# Altium integrated library Linear Technology Power Management LDO Linear Regulators.IntLib: 2339 symbols (part 20 of 131)
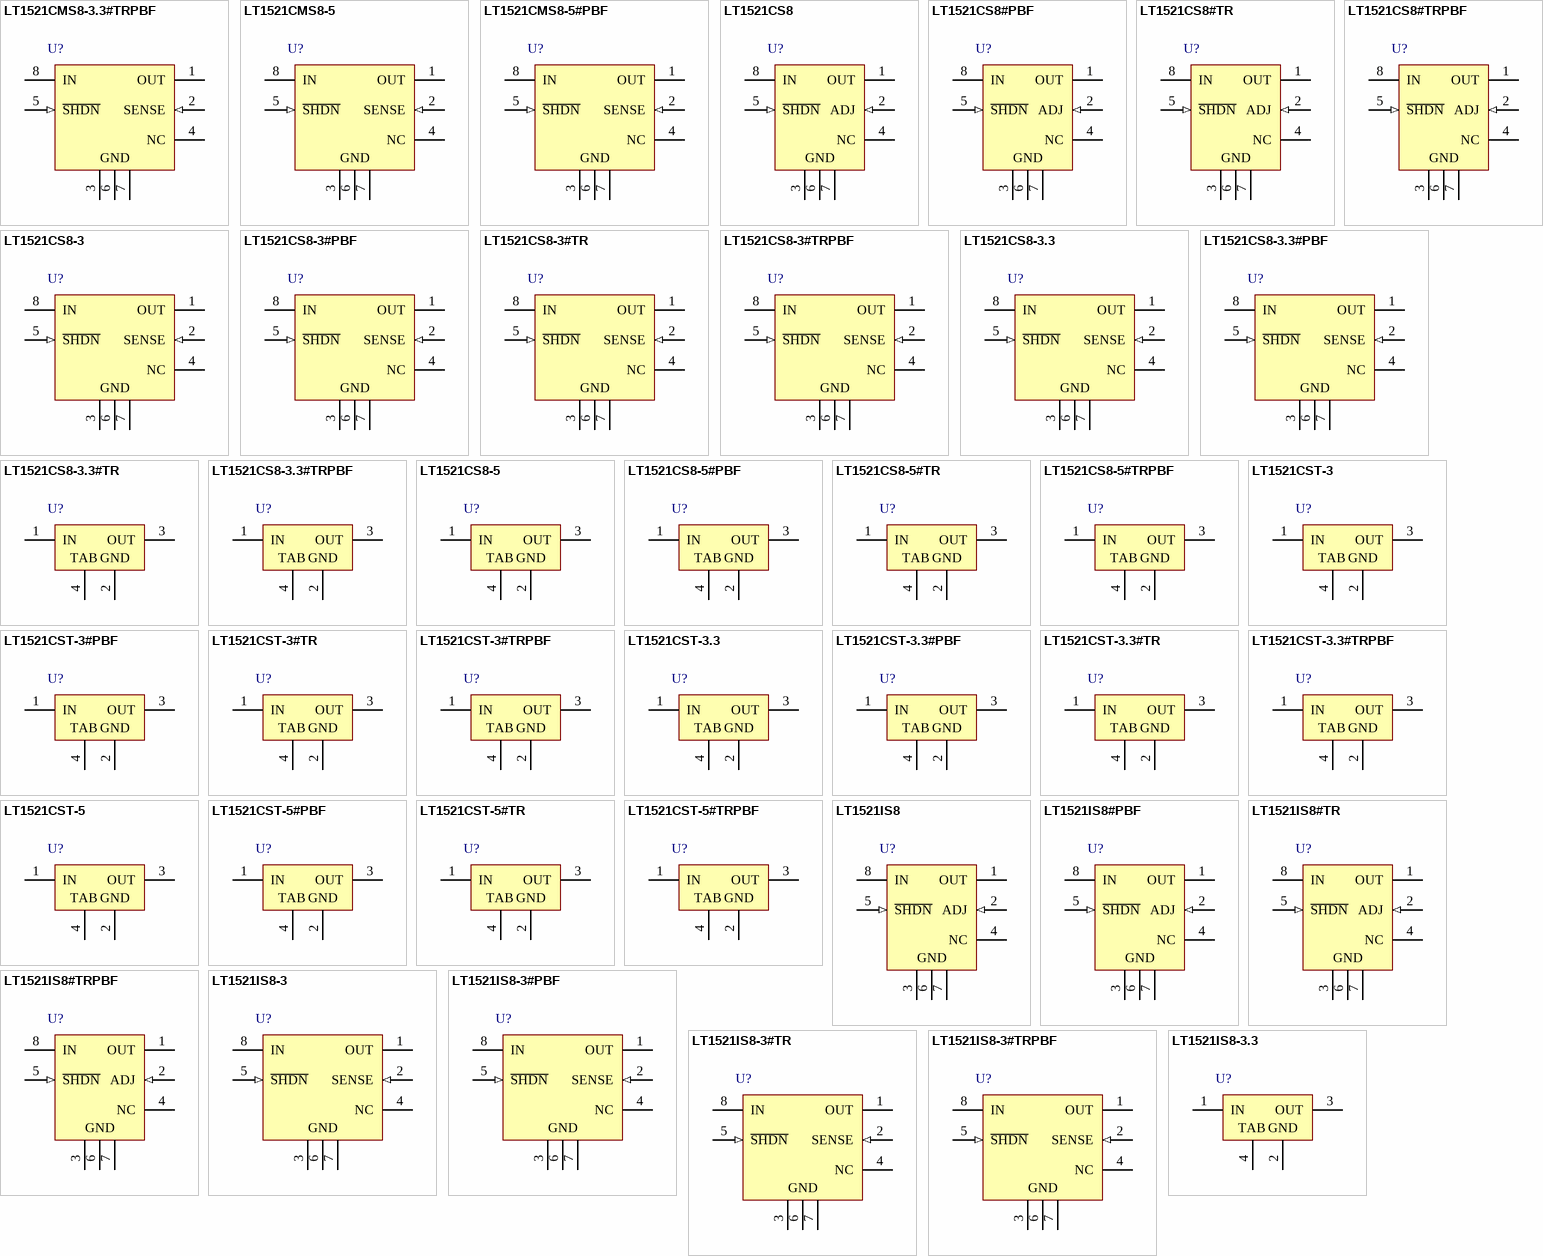
[diagram p88: symbols LT1521CMS8-3.3#TRPBF to LT1521IS8-3.3]

## LT1521CMS8-5
designator U?
300 mA Low Dropout Regulator with Micropower Quiescent Current and Shutdown, 4.3 to 20 V Vin, 5 V Vout, 8-pin SOP (MS8-8), 0 to 125 degC; Manufacturer: Linear Technology; PartNumber: LT1521CMS8-5; Discrete Pass Element: no; Dropout Voltage(V): 0.5; Iout(mA): 300; Isupply(mA): 0.012; Number of Outputs: 1; Output Voltage: 5 V; Shutdown Current(uA): 6; Vin Max(V): 20; Vin Min(V): 4.3; DatasheetVersion: Rev. B; PackageVersion: Rev. G, 03/2012; PackageReference: MS8-8; PackageDescription: 8-Pin Plastic MSOP, Body 3 x 3 mm, Pitch 0.65 mm; Supplier 1: Digi-Key; Supplier Part Number 1: LT1521CMS8-5-ND; RoHS: FALSE; Mounting Technology: Surface Mount; ComponentLink1Description: Manufacturer URL; ComponentLink1URL: http://www.linear.com/; ComponentLink2Description: Datasheet; ComponentLink2URL: http://cds.linear.com/docs/en/datasheet/1521335fb.pdf; ComponentLink3Description: Package Specification; ComponentLink3URL: http://cds.linear.com/docs/en/packaging/05081660_G_MS8.pdf
footprint LT-MS8-8_N (SOP, 8-Leads, Body 3x3mm, Pitch 0.65mm, IPC Medium Density)
footprint LT-MS8-8_L (SOP, 8-Leads, Body 3x3mm, Pitch 0.65mm, IPC High Density)
footprint LT-MS8-8_M (SOP, 8-Leads, Body 3x3mm, Pitch 0.65mm, IPC Low Density)
pins: 1 OUT (power), 2 SENSE (in), 3 GND (power), 4 NC, 5 ~{SHDN} (in), 6 GND (power), 7 GND (power), 8 IN (power)

## LT1521CMS8-5#PBF
designator U?
300 mA Low Dropout Regulator with Micropower Quiescent Current and Shutdown, 4.3 to 20 V Vin, 5 V Vout, 8-pin SOP (MS8-8), 0 to 125 degC, Pb-Free; Manufacturer: Linear Technology; PartNumber: LT1521CMS8-5#PBF; Discrete Pass Element: no; Dropout Voltage(V): 0.5; Iout(mA): 300; Isupply(mA): 0.012; Number of Outputs: 1; Output Voltage: 5 V; Shutdown Current(uA): 6; Vin Max(V): 20; Vin Min(V): 4.3; DatasheetVersion: Rev. B; PackageVersion: Rev. G, 03/2012; PackageReference: MS8-8; PackageDescription: 8-Pin Plastic MSOP, Body 3 x 3 mm, Pitch 0.65 mm; Supplier 1: Digi-Key; Supplier Part Number 1: LT1521CMS8-5#PBF-ND; Supplier 2: Newark; Supplier Part Number 2: 57M4745; RoHS: TRUE; Mounting Technology: Surface Mount; ComponentLink1Description: Manufacturer URL; ComponentLink1URL: http://www.linear.com/; ComponentLink2Description: Datasheet; ComponentLink2URL: http://cds.linear.com/docs/en/datasheet/1521335fb.pdf; ComponentLink3Description: Package Specification; ComponentLink3URL: http://cds.linear.com/docs/en/packaging/05081660_G_MS8.pdf
footprint LT-MS8-8_N (SOP, 8-Leads, Body 3x3mm, Pitch 0.65mm, IPC Medium Density)
footprint LT-MS8-8_L (SOP, 8-Leads, Body 3x3mm, Pitch 0.65mm, IPC High Density)
footprint LT-MS8-8_M (SOP, 8-Leads, Body 3x3mm, Pitch 0.65mm, IPC Low Density)
pins: 1 OUT (power), 2 SENSE (in), 3 GND (power), 4 NC, 5 ~{SHDN} (in), 6 GND (power), 7 GND (power), 8 IN (power)

## LT1521CS8
designator U?
300 mA Low Dropout Regulator with Micropower Quiescent Current and Shutdown, 4.3 to 20 V Vin, Adjustable Vout, 8-pin SOIC (S8-8), 0 to 125 degC; Manufacturer: Linear Technology; PartNumber: LT1521CS8; Discrete Pass Element: no; Dropout Voltage(V): 0.5; Iout(mA): 300; Isupply(mA): 0.012; Number of Outputs: 1; Output Voltage: Adj; Shutdown Current(uA): 6; Vin Max(V): 20; Vin Min(V): 4.3; Vout Min(V): 3.8; DatasheetVersion: Rev. B; PackageVersion: Rev. G, 03/2012; PackageReference: S8-8; PackageDescription: 8-Pin Plastic Small Outline (Narrow .150 Inch), Body 4.9 x 3.9 mm, Pitch 1.27 mm; Supplier 1: Digi-Key; Supplier Part Number 1: LT1521CS8-ND; RoHS: FALSE; Vout Max(V): 20; Mounting Technology: Surface Mount; ComponentLink1Description: Manufacturer URL; ComponentLink1URL: http://www.linear.com/; ComponentLink2Description: Datasheet; ComponentLink2URL: http://cds.linear.com/docs/en/datasheet/1521335fb.pdf; ComponentLink3Description: Package Specification; ComponentLink3URL: http://cds.linear.com/docs/en/packaging/05081610_G_SO8.pdf
footprint LT-S8-8_N (SOIC, 8-Leads, Body 4.9x3.9mm, Pitch 1.27mm, IPC Medium Density)
footprint LT-S8-8_L (SOIC, 8-Leads, Body 4.9x3.9mm, Pitch 1.27mm, IPC High Density)
footprint LT-S8-8_M (SOIC, 8-Leads, Body 4.9x3.9mm, Pitch 1.27mm, IPC Low Density)
pins: 1 OUT (power) "The output pin supplies power to the load.with larger load transients.", 2 ADJ (in) "Adjust.", 3 GND (power), 4 NC, 5 ~{SHDN} (in) "The shutdown pin is used to put the device into shutdown.", 6 GND (power), 7 GND (power), 8 IN (power) "Power is supplied to the device through the input pin. capacitor."

## LT1521CS8#PBF
designator U?
300 mA Low Dropout Regulator with Micropower Quiescent Current and Shutdown, 4.3 to 20 V Vin, Adjustable Vout, 8-pin SOIC (S8-8), 0 to 125 degC, Pb-Free; Manufacturer: Linear Technology; PartNumber: LT1521CS8#PBF; Discrete Pass Element: no; Dropout Voltage(V): 0.5; Iout(mA): 300; Isupply(mA): 0.012; Number of Outputs: 1; Output Voltage: Adj; Shutdown Current(uA): 6; Vin Max(V): 20; Vin Min(V): 4.3; Vout Min(V): 3.8; DatasheetVersion: Rev. B; PackageVersion: Rev. G, 03/2012; PackageReference: S8-8; PackageDescription: 8-Pin Plastic Small Outline (Narrow .150 Inch), Body 4.9 x 3.9 mm, Pitch 1.27 mm; Supplier 1: Digi-Key; Supplier Part Number 1: LT1521CS8#PBF-ND; Supplier 2: Farnell; Supplier Part Number 2: 9560599; Supplier 3: Newark; Supplier Part Number 3: 57M4772; RoHS: TRUE; Vout Max(V): 20; Mounting Technology: Surface Mount; ComponentLink1Description: Manufacturer URL; ComponentLink1URL: http://www.linear.com/; ComponentLink2Description: Datasheet; ComponentLink2URL: http://cds.linear.com/docs/en/datasheet/1521335fb.pdf; ComponentLink3Description: Package Specification; ComponentLink3URL: http://cds.linear.com/docs/en/packaging/05081610_G_SO8.pdf
footprint LT-S8-8_N (SOIC, 8-Leads, Body 4.9x3.9mm, Pitch 1.27mm, IPC Medium Density)
footprint LT-S8-8_L (SOIC, 8-Leads, Body 4.9x3.9mm, Pitch 1.27mm, IPC High Density)
footprint LT-S8-8_M (SOIC, 8-Leads, Body 4.9x3.9mm, Pitch 1.27mm, IPC Low Density)
pins: 1 OUT (power) "The output pin supplies power to the load.with larger load transients.", 2 ADJ (in) "Adjust.", 3 GND (power), 4 NC, 5 ~{SHDN} (in) "The shutdown pin is used to put the device into shutdown.", 6 GND (power), 7 GND (power), 8 IN (power) "Power is supplied to the device through the input pin. capacitor."

## LT1521CS8#TR
designator U?
300 mA Low Dropout Regulator with Micropower Quiescent Current and Shutdown, 4.3 to 20 V Vin, Adjustable Vout, 8-pin SOIC (S8-8), 0 to 125 degC, Tape and Reel; Manufacturer: Linear Technology; PartNumber: LT1521CS8#TR; Discrete Pass Element: no; Dropout Voltage(V): 0.5; Iout(mA): 300; Isupply(mA): 0.012; Number of Outputs: 1; Output Voltage: Adj; Shutdown Current(uA): 6; Vin Max(V): 20; Vin Min(V): 4.3; Vout Min(V): 3.8; DatasheetVersion: Rev. B; PackageVersion: Rev. G, 03/2012; PackageReference: S8-8; PackageDescription: 8-Pin Plastic Small Outline (Narrow .150 Inch), Body 4.9 x 3.9 mm, Pitch 1.27 mm; Supplier 1: Digi-Key; Supplier Part Number 1: LT1521CS8#TR-ND; Packing: Tape and Reel; RoHS: FALSE; Vout Max(V): 20; Mounting Technology: Surface Mount; ComponentLink1Description: Manufacturer URL; ComponentLink1URL: http://www.linear.com/; ComponentLink2Description: Datasheet; ComponentLink2URL: http://cds.linear.com/docs/en/datasheet/1521335fb.pdf; ComponentLink3Description: Package Specification; ComponentLink3URL: http://cds.linear.com/docs/en/packaging/05081610_G_SO8.pdf
footprint LT-S8-8_N (SOIC, 8-Leads, Body 4.9x3.9mm, Pitch 1.27mm, IPC Medium Density)
footprint LT-S8-8_L (SOIC, 8-Leads, Body 4.9x3.9mm, Pitch 1.27mm, IPC High Density)
footprint LT-S8-8_M (SOIC, 8-Leads, Body 4.9x3.9mm, Pitch 1.27mm, IPC Low Density)
pins: 1 OUT (power) "The output pin supplies power to the load.with larger load transients.", 2 ADJ (in) "Adjust.", 3 GND (power), 4 NC, 5 ~{SHDN} (in) "The shutdown pin is used to put the device into shutdown.", 6 GND (power), 7 GND (power), 8 IN (power) "Power is supplied to the device through the input pin. capacitor."

## LT1521CS8#TRPBF
designator U?
300 mA Low Dropout Regulator with Micropower Quiescent Current and Shutdown, 4.3 to 20 V Vin, Adjustable Vout, 8-pin SOIC (S8-8), 0 to 125 degC, Pb-Free, Tape and Reel; Manufacturer: Linear Technology; PartNumber: LT1521CS8#TRPBF; Discrete Pass Element: no; Dropout Voltage(V): 0.5; Iout(mA): 300; Isupply(mA): 0.012; Number of Outputs: 1; Output Voltage: Adj; Shutdown Current(uA): 6; Vin Max(V): 20; Vin Min(V): 4.3; Vout Min(V): 3.8; DatasheetVersion: Rev. B; PackageVersion: Rev. G, 03/2012; PackageReference: S8-8; PackageDescription: 8-Pin Plastic Small Outline (Narrow .150 Inch), Body 4.9 x 3.9 mm, Pitch 1.27 mm; Supplier 1: Digi-Key; Supplier Part Number 1: LT1521CS8#TRPBF-ND; Packing: Tape and Reel; RoHS: TRUE; Vout Max(V): 20; Mounting Technology: Surface Mount; ComponentLink1Description: Manufacturer URL; ComponentLink1URL: http://www.linear.com/; ComponentLink2Description: Datasheet; ComponentLink2URL: http://cds.linear.com/docs/en/datasheet/1521335fb.pdf; ComponentLink3Description: Package Specification; ComponentLink3URL: http://cds.linear.com/docs/en/packaging/05081610_G_SO8.pdf
footprint LT-S8-8_N (SOIC, 8-Leads, Body 4.9x3.9mm, Pitch 1.27mm, IPC Medium Density)
footprint LT-S8-8_L (SOIC, 8-Leads, Body 4.9x3.9mm, Pitch 1.27mm, IPC High Density)
footprint LT-S8-8_M (SOIC, 8-Leads, Body 4.9x3.9mm, Pitch 1.27mm, IPC Low Density)
pins: 1 OUT (power) "The output pin supplies power to the load.with larger load transients.", 2 ADJ (in) "Adjust.", 3 GND (power), 4 NC, 5 ~{SHDN} (in) "The shutdown pin is used to put the device into shutdown.", 6 GND (power), 7 GND (power), 8 IN (power) "Power is supplied to the device through the input pin. capacitor."

## LT1521CS8-3
designator U?
300 mA Low Dropout Regulator with Micropower Quiescent Current and Shutdown, 4.3 to 20 V Vin, 3 V Vout, 8-pin SOIC (S8-8), 0 to 125 degC; Manufacturer: Linear Technology; PartNumber: LT1521CS8-3; Discrete Pass Element: no; Dropout Voltage(V): 0.5; Iout(mA): 300; Isupply(mA): 0.012; Number of Outputs: 1; Output Voltage: 3 V; Shutdown Current(uA): 6; Vin Max(V): 20; Vin Min(V): 4.3; DatasheetVersion: Rev. B; PackageVersion: Rev. G, 03/2012; PackageReference: S8-8; PackageDescription: 8-Pin Plastic Small Outline (Narrow .150 Inch), Body 4.9 x 3.9 mm, Pitch 1.27 mm; Supplier 1: Digi-Key; Supplier Part Number 1: LT1521CS8-3-ND; RoHS: FALSE; Mounting Technology: Surface Mount; ComponentLink1Description: Manufacturer URL; ComponentLink1URL: http://www.linear.com/; ComponentLink2Description: Datasheet; ComponentLink2URL: http://cds.linear.com/docs/en/datasheet/1521335fb.pdf; ComponentLink3Description: Package Specification; ComponentLink3URL: http://cds.linear.com/docs/en/packaging/05081610_G_SO8.pdf
footprint LT-S8-8_N (SOIC, 8-Leads, Body 4.9x3.9mm, Pitch 1.27mm, IPC Medium Density)
footprint LT-S8-8_L (SOIC, 8-Leads, Body 4.9x3.9mm, Pitch 1.27mm, IPC High Density)
footprint LT-S8-8_M (SOIC, 8-Leads, Body 4.9x3.9mm, Pitch 1.27mm, IPC Low Density)
pins: 1 OUT (power), 2 SENSE (in), 3 GND (power), 4 NC, 5 ~{SHDN} (in), 6 GND (power), 7 GND (power), 8 IN (power)

## LT1521CS8-3#PBF
designator U?
300 mA Low Dropout Regulator with Micropower Quiescent Current and Shutdown, 4.3 to 20 V Vin, 3 V Vout, 8-pin SOIC (S8-8), 0 to 125 degC, Pb-Free; Manufacturer: Linear Technology; PartNumber: LT1521CS8-3#PBF; Discrete Pass Element: no; Dropout Voltage(V): 0.5; Iout(mA): 300; Isupply(mA): 0.012; Number of Outputs: 1; Output Voltage: 3 V; Shutdown Current(uA): 6; Vin Max(V): 20; Vin Min(V): 4.3; DatasheetVersion: Rev. B; PackageVersion: Rev. G, 03/2012; PackageReference: S8-8; PackageDescription: 8-Pin Plastic Small Outline (Narrow .150 Inch), Body 4.9 x 3.9 mm, Pitch 1.27 mm; Supplier 1: Digi-Key; Supplier Part Number 1: LT1521CS8-3#PBF-ND; Supplier 2: Farnell; Supplier Part Number 2: 1273581; RoHS: TRUE; Mounting Technology: Surface Mount; ComponentLink1Description: Manufacturer URL; ComponentLink1URL: http://www.linear.com/; ComponentLink2Description: Datasheet; ComponentLink2URL: http://cds.linear.com/docs/en/datasheet/1521335fb.pdf; ComponentLink3Description: Package Specification; ComponentLink3URL: http://cds.linear.com/docs/en/packaging/05081610_G_SO8.pdf
footprint LT-S8-8_N (SOIC, 8-Leads, Body 4.9x3.9mm, Pitch 1.27mm, IPC Medium Density)
footprint LT-S8-8_L (SOIC, 8-Leads, Body 4.9x3.9mm, Pitch 1.27mm, IPC High Density)
footprint LT-S8-8_M (SOIC, 8-Leads, Body 4.9x3.9mm, Pitch 1.27mm, IPC Low Density)
pins: 1 OUT (power), 2 SENSE (in), 3 GND (power), 4 NC, 5 ~{SHDN} (in), 6 GND (power), 7 GND (power), 8 IN (power)

## LT1521CS8-3#TR
designator U?
300 mA Low Dropout Regulator with Micropower Quiescent Current and Shutdown, 4.3 to 20 V Vin, 3 V Vout, 8-pin SOIC (S8-8), 0 to 125 degC, Tape and Reel; Manufacturer: Linear Technology; PartNumber: LT1521CS8-3#TR; Discrete Pass Element: no; Dropout Voltage(V): 0.5; Iout(mA): 300; Isupply(mA): 0.012; Number of Outputs: 1; Output Voltage: 3 V; Shutdown Current(uA): 6; Vin Max(V): 20; Vin Min(V): 4.3; DatasheetVersion: Rev. B; PackageVersion: Rev. G, 03/2012; PackageReference: S8-8; PackageDescription: 8-Pin Plastic Small Outline (Narrow .150 Inch), Body 4.9 x 3.9 mm, Pitch 1.27 mm; Supplier 1: Digi-Key; Supplier Part Number 1: LT1521CS8-3#TR-ND; Packing: Tape and Reel; RoHS: FALSE; Mounting Technology: Surface Mount; ComponentLink1Description: Manufacturer URL; ComponentLink1URL: http://www.linear.com/; ComponentLink2Description: Datasheet; ComponentLink2URL: http://cds.linear.com/docs/en/datasheet/1521335fb.pdf; ComponentLink3Description: Package Specification; ComponentLink3URL: http://cds.linear.com/docs/en/packaging/05081610_G_SO8.pdf
footprint LT-S8-8_N (SOIC, 8-Leads, Body 4.9x3.9mm, Pitch 1.27mm, IPC Medium Density)
footprint LT-S8-8_L (SOIC, 8-Leads, Body 4.9x3.9mm, Pitch 1.27mm, IPC High Density)
footprint LT-S8-8_M (SOIC, 8-Leads, Body 4.9x3.9mm, Pitch 1.27mm, IPC Low Density)
pins: 1 OUT (power), 2 SENSE (in), 3 GND (power), 4 NC, 5 ~{SHDN} (in), 6 GND (power), 7 GND (power), 8 IN (power)

## LT1521CS8-3#TRPBF
designator U?
300 mA Low Dropout Regulator with Micropower Quiescent Current and Shutdown, 4.3 to 20 V Vin, 3 V Vout, 8-pin SOIC (S8-8), 0 to 125 degC, Pb-Free, Tape and Reel; Manufacturer: Linear Technology; PartNumber: LT1521CS8-3#TRPBF; Discrete Pass Element: no; Dropout Voltage(V): 0.5; Iout(mA): 300; Isupply(mA): 0.012; Number of Outputs: 1; Output Voltage: 3 V; Shutdown Current(uA): 6; Vin Max(V): 20; Vin Min(V): 4.3; DatasheetVersion: Rev. B; PackageVersion: Rev. G, 03/2012; PackageReference: S8-8; PackageDescription: 8-Pin Plastic Small Outline (Narrow .150 Inch), Body 4.9 x 3.9 mm, Pitch 1.27 mm; Supplier 1: Digi-Key; Supplier Part Number 1: LT1521CS8-3#TRPBF-ND; Packing: Tape and Reel; RoHS: TRUE; Mounting Technology: Surface Mount; ComponentLink1Description: Manufacturer URL; ComponentLink1URL: http://www.linear.com/; ComponentLink2Description: Datasheet; ComponentLink2URL: http://cds.linear.com/docs/en/datasheet/1521335fb.pdf; ComponentLink3Description: Package Specification; ComponentLink3URL: http://cds.linear.com/docs/en/packaging/05081610_G_SO8.pdf
footprint LT-S8-8_N (SOIC, 8-Leads, Body 4.9x3.9mm, Pitch 1.27mm, IPC Medium Density)
footprint LT-S8-8_L (SOIC, 8-Leads, Body 4.9x3.9mm, Pitch 1.27mm, IPC High Density)
footprint LT-S8-8_M (SOIC, 8-Leads, Body 4.9x3.9mm, Pitch 1.27mm, IPC Low Density)
pins: 1 OUT (power), 2 SENSE (in), 3 GND (power), 4 NC, 5 ~{SHDN} (in), 6 GND (power), 7 GND (power), 8 IN (power)

## LT1521CS8-3.3
designator U?
300 mA Low Dropout Regulator with Micropower Quiescent Current and Shutdown, 4.3 to 20 V Vin, 3.3 V Vout, 8-pin SOIC (S8-8), 0 to 125 degC; Manufacturer: Linear Technology; PartNumber: LT1521CS8-3.3; Discrete Pass Element: no; Dropout Voltage(V): 0.5; Iout(mA): 300; Isupply(mA): 0.012; Number of Outputs: 1; Output Voltage: 3.3 V; Shutdown Current(uA): 6; Vin Max(V): 20; Vin Min(V): 4.3; DatasheetVersion: Rev. B; PackageVersion: Rev. G, 03/2012; PackageReference: S8-8; PackageDescription: 8-Pin Plastic Small Outline (Narrow .150 Inch), Body 4.9 x 3.9 mm, Pitch 1.27 mm; Supplier 1: Digi-Key; Supplier Part Number 1: LT1521CS8-3.3-ND; RoHS: FALSE; Mounting Technology: Surface Mount; ComponentLink1Description: Manufacturer URL; ComponentLink1URL: http://www.linear.com/; ComponentLink2Description: Datasheet; ComponentLink2URL: http://cds.linear.com/docs/en/datasheet/1521335fb.pdf; ComponentLink3Description: Package Specification; ComponentLink3URL: http://cds.linear.com/docs/en/packaging/05081610_G_SO8.pdf
footprint LT-S8-8_N (SOIC, 8-Leads, Body 4.9x3.9mm, Pitch 1.27mm, IPC Medium Density)
footprint LT-S8-8_L (SOIC, 8-Leads, Body 4.9x3.9mm, Pitch 1.27mm, IPC High Density)
footprint LT-S8-8_M (SOIC, 8-Leads, Body 4.9x3.9mm, Pitch 1.27mm, IPC Low Density)
pins: 1 OUT (power), 2 SENSE (in), 3 GND (power), 4 NC, 5 ~{SHDN} (in), 6 GND (power), 7 GND (power), 8 IN (power)

## LT1521CS8-3.3#PBF
designator U?
300 mA Low Dropout Regulator with Micropower Quiescent Current and Shutdown, 4.3 to 20 V Vin, 3.3 V Vout, 8-pin SOIC (S8-8), 0 to 125 degC, Pb-Free; Manufacturer: Linear Technology; PartNumber: LT1521CS8-3.3#PBF; Discrete Pass Element: no; Dropout Voltage(V): 0.5; Iout(mA): 300; Isupply(mA): 0.012; Number of Outputs: 1; Output Voltage: 3.3 V; Shutdown Current(uA): 6; Vin Max(V): 20; Vin Min(V): 4.3; DatasheetVersion: Rev. B; PackageVersion: Rev. G, 03/2012; PackageReference: S8-8; PackageDescription: 8-Pin Plastic Small Outline (Narrow .150 Inch), Body 4.9 x 3.9 mm, Pitch 1.27 mm; Supplier 1: Digi-Key; Supplier Part Number 1: LT1521CS8-3.3#PBF-ND; Supplier 2: Farnell; Supplier Part Number 2: 1273582; Supplier 3: Newark; Supplier Part Number 3: 57M4762; RoHS: TRUE; Mounting Technology: Surface Mount; ComponentLink1Description: Manufacturer URL; ComponentLink1URL: http://www.linear.com/; ComponentLink2Description: Datasheet; ComponentLink2URL: http://cds.linear.com/docs/en/datasheet/1521335fb.pdf; ComponentLink3Description: Package Specification; ComponentLink3URL: http://cds.linear.com/docs/en/packaging/05081610_G_SO8.pdf
footprint LT-S8-8_N (SOIC, 8-Leads, Body 4.9x3.9mm, Pitch 1.27mm, IPC Medium Density)
footprint LT-S8-8_L (SOIC, 8-Leads, Body 4.9x3.9mm, Pitch 1.27mm, IPC High Density)
footprint LT-S8-8_M (SOIC, 8-Leads, Body 4.9x3.9mm, Pitch 1.27mm, IPC Low Density)
pins: 1 OUT (power), 2 SENSE (in), 3 GND (power), 4 NC, 5 ~{SHDN} (in), 6 GND (power), 7 GND (power), 8 IN (power)

## LT1521CS8-3.3#TR
designator U?
300 mA Low Dropout Regulator with Micropower Quiescent Current and Shutdown, 4.3 to 20 V Vin, 3.3 V Vout, 8-pin SOIC (S8-8), 0 to 125 degC, Tape and Reel; Manufacturer: Linear Technology; PartNumber: LT1521CS8-3.3#TR; Discrete Pass Element: no; Dropout Voltage(V): 0.5; Iout(mA): 300; Isupply(mA): 0.012; Number of Outputs: 1; Output Voltage: 3.3 V; Shutdown Current(uA): 6; Vin Max(V): 20; Vin Min(V): 4.3; DatasheetVersion: Rev. B; PackageVersion: Rev. G, 03/2012; PackageReference: S8-8; PackageDescription: 8-Pin Plastic Small Outline (Narrow .150 Inch), Body 4.9 x 3.9 mm, Pitch 1.27 mm; Supplier 1: Digi-Key; Supplier Part Number 1: LT1521CS8-3.3TR-ND; Packing: Tape and Reel; RoHS: FALSE; Mounting Technology: Surface Mount; ComponentLink1Description: Manufacturer URL; ComponentLink1URL: http://www.linear.com/; ComponentLink2Description: Datasheet; ComponentLink2URL: http://cds.linear.com/docs/en/datasheet/1521335fb.pdf; ComponentLink3Description: Package Specification; ComponentLink3URL: http://cds.linear.com/docs/en/packaging/05081610_G_SO8.pdf
footprint LT-S8-8_N (SOIC, 8-Leads, Body 4.9x3.9mm, Pitch 1.27mm, IPC Medium Density)
footprint LT-S8-8_L (SOIC, 8-Leads, Body 4.9x3.9mm, Pitch 1.27mm, IPC High Density)
footprint LT-S8-8_M (SOIC, 8-Leads, Body 4.9x3.9mm, Pitch 1.27mm, IPC Low Density)
pins: 1 IN (power) "Power is supplied to the device through the IN pin. A bypass capacitor is required on this pin if the device is more than six inches away from the main input filter capacitor. In general, the output impedance of a battery (See Datasheet)", 2 GND (power), 3 OUT (power) "The output supplies power to the load. A minimum output capacitor of 10uF is required to prevent oscillations. Larger output capacitors will be required for applications with large transient loads to limit peak voltage (See Datasheet)", 4 TAB (power)

## LT1521CS8-3.3#TRPBF
designator U?
300 mA Low Dropout Regulator with Micropower Quiescent Current and Shutdown, 4.3 to 20 V Vin, 3.3 V Vout, 8-pin SOIC (S8-8), 0 to 125 degC, Pb-Free, Tape and Reel; Manufacturer: Linear Technology; PartNumber: LT1521CS8-3.3#TRPBF; Discrete Pass Element: no; Dropout Voltage(V): 0.5; Iout(mA): 300; Isupply(mA): 0.012; Number of Outputs: 1; Output Voltage: 3.3 V; Shutdown Current(uA): 6; Vin Max(V): 20; Vin Min(V): 4.3; DatasheetVersion: Rev. B; PackageVersion: Rev. G, 03/2012; PackageReference: S8-8; PackageDescription: 8-Pin Plastic Small Outline (Narrow .150 Inch), Body 4.9 x 3.9 mm, Pitch 1.27 mm; Supplier 1: Digi-Key; Supplier Part Number 1: LT1521CS8-3.3#TRPBF-ND; Packing: Tape and Reel; RoHS: TRUE; Mounting Technology: Surface Mount; ComponentLink1Description: Manufacturer URL; ComponentLink1URL: http://www.linear.com/; ComponentLink2Description: Datasheet; ComponentLink2URL: http://cds.linear.com/docs/en/datasheet/1521335fb.pdf; ComponentLink3Description: Package Specification; ComponentLink3URL: http://cds.linear.com/docs/en/packaging/05081610_G_SO8.pdf
footprint LT-S8-8_N (SOIC, 8-Leads, Body 4.9x3.9mm, Pitch 1.27mm, IPC Medium Density)
footprint LT-S8-8_L (SOIC, 8-Leads, Body 4.9x3.9mm, Pitch 1.27mm, IPC High Density)
footprint LT-S8-8_M (SOIC, 8-Leads, Body 4.9x3.9mm, Pitch 1.27mm, IPC Low Density)
pins: 1 IN (power) "Power is supplied to the device through the IN pin. A bypass capacitor is required on this pin if the device is more than six inches away from the main input filter capacitor. In general, the output impedance of a battery (See Datasheet)", 2 GND (power), 3 OUT (power) "The output supplies power to the load. A minimum output capacitor of 10uF is required to prevent oscillations. Larger output capacitors will be required for applications with large transient loads to limit peak voltage (See Datasheet)", 4 TAB (power)

## LT1521CS8-5
designator U?
300 mA Low Dropout Regulator with Micropower Quiescent Current and Shutdown, 4.3 to 20 V Vin, 5 V Vout, 8-pin SOIC (S8-8), 0 to 125 degC; Manufacturer: Linear Technology; PartNumber: LT1521CS8-5; Discrete Pass Element: no; Dropout Voltage(V): 0.5; Iout(mA): 300; Isupply(mA): 0.012; Number of Outputs: 1; Output Voltage: 5 V; Shutdown Current(uA): 6; Vin Max(V): 20; Vin Min(V): 4.3; DatasheetVersion: Rev. B; PackageVersion: Rev. G, 03/2012; PackageReference: S8-8; PackageDescription: 8-Pin Plastic Small Outline (Narrow .150 Inch), Body 4.9 x 3.9 mm, Pitch 1.27 mm; Supplier 1: Digi-Key; Supplier Part Number 1: LT1521CS8-5-ND; RoHS: FALSE; Mounting Technology: Surface Mount; ComponentLink1Description: Manufacturer URL; ComponentLink1URL: http://www.linear.com/; ComponentLink2Description: Datasheet; ComponentLink2URL: http://cds.linear.com/docs/en/datasheet/1521335fb.pdf; ComponentLink3Description: Package Specification; ComponentLink3URL: http://cds.linear.com/docs/en/packaging/05081610_G_SO8.pdf
footprint LT-S8-8_N (SOIC, 8-Leads, Body 4.9x3.9mm, Pitch 1.27mm, IPC Medium Density)
footprint LT-S8-8_L (SOIC, 8-Leads, Body 4.9x3.9mm, Pitch 1.27mm, IPC High Density)
footprint LT-S8-8_M (SOIC, 8-Leads, Body 4.9x3.9mm, Pitch 1.27mm, IPC Low Density)
pins: 1 IN (power) "Power is supplied to the device through the IN pin. A bypass capacitor is required on this pin if the device is more than six inches away from the main input filter capacitor. In general, the output impedance of a battery (See Datasheet)", 2 GND (power), 3 OUT (power) "The output supplies power to the load. A minimum output capacitor of 10uF is required to prevent oscillations. Larger output capacitors will be required for applications with large transient loads to limit peak voltage (See Datasheet)", 4 TAB (power)

## LT1521CS8-5#PBF
designator U?
300 mA Low Dropout Regulator with Micropower Quiescent Current and Shutdown, 4.3 to 20 V Vin, 5 V Vout, 8-pin SOIC (S8-8), 0 to 125 degC, Pb-Free; Manufacturer: Linear Technology; PartNumber: LT1521CS8-5#PBF; Discrete Pass Element: no; Dropout Voltage(V): 0.5; Iout(mA): 300; Isupply(mA): 0.012; Number of Outputs: 1; Output Voltage: 5 V; Shutdown Current(uA): 6; Vin Max(V): 20; Vin Min(V): 4.3; DatasheetVersion: Rev. B; PackageVersion: Rev. G, 03/2012; PackageReference: S8-8; PackageDescription: 8-Pin Plastic Small Outline (Narrow .150 Inch), Body 4.9 x 3.9 mm, Pitch 1.27 mm; Supplier 1: Digi-Key; Supplier Part Number 1: LT1521CS8-5#PBF-ND; Supplier 2: Farnell; Supplier Part Number 2: 9560602; Supplier 3: Newark; Supplier Part Number 3: 57M4769; RoHS: TRUE; Mounting Technology: Surface Mount; ComponentLink1Description: Manufacturer URL; ComponentLink1URL: http://www.linear.com/; ComponentLink2Description: Datasheet; ComponentLink2URL: http://cds.linear.com/docs/en/datasheet/1521335fb.pdf; ComponentLink3Description: Package Specification; ComponentLink3URL: http://cds.linear.com/docs/en/packaging/05081610_G_SO8.pdf
footprint LT-S8-8_N (SOIC, 8-Leads, Body 4.9x3.9mm, Pitch 1.27mm, IPC Medium Density)
footprint LT-S8-8_L (SOIC, 8-Leads, Body 4.9x3.9mm, Pitch 1.27mm, IPC High Density)
footprint LT-S8-8_M (SOIC, 8-Leads, Body 4.9x3.9mm, Pitch 1.27mm, IPC Low Density)
pins: 1 IN (power) "Power is supplied to the device through the IN pin. A bypass capacitor is required on this pin if the device is more than six inches away from the main input filter capacitor. In general, the output impedance of a battery (See Datasheet)", 2 GND (power), 3 OUT (power) "The output supplies power to the load. A minimum output capacitor of 10uF is required to prevent oscillations. Larger output capacitors will be required for applications with large transient loads to limit peak voltage (See Datasheet)", 4 TAB (power)

## LT1521CS8-5#TR
designator U?
300 mA Low Dropout Regulator with Micropower Quiescent Current and Shutdown, 4.3 to 20 V Vin, 5 V Vout, 8-pin SOIC (S8-8), 0 to 125 degC, Tape and Reel; Manufacturer: Linear Technology; PartNumber: LT1521CS8-5#TR; Discrete Pass Element: no; Dropout Voltage(V): 0.5; Iout(mA): 300; Isupply(mA): 0.012; Number of Outputs: 1; Output Voltage: 5 V; Shutdown Current(uA): 6; Vin Max(V): 20; Vin Min(V): 4.3; DatasheetVersion: Rev. B; PackageVersion: Rev. G, 03/2012; PackageReference: S8-8; PackageDescription: 8-Pin Plastic Small Outline (Narrow .150 Inch), Body 4.9 x 3.9 mm, Pitch 1.27 mm; Supplier 1: Digi-Key; Supplier Part Number 1: LT1521CS8-5#TR-ND; Packing: Tape and Reel; RoHS: FALSE; Mounting Technology: Surface Mount; ComponentLink1Description: Manufacturer URL; ComponentLink1URL: http://www.linear.com/; ComponentLink2Description: Datasheet; ComponentLink2URL: http://cds.linear.com/docs/en/datasheet/1521335fb.pdf; ComponentLink3Description: Package Specification; ComponentLink3URL: http://cds.linear.com/docs/en/packaging/05081610_G_SO8.pdf
footprint LT-S8-8_N (SOIC, 8-Leads, Body 4.9x3.9mm, Pitch 1.27mm, IPC Medium Density)
footprint LT-S8-8_L (SOIC, 8-Leads, Body 4.9x3.9mm, Pitch 1.27mm, IPC High Density)
footprint LT-S8-8_M (SOIC, 8-Leads, Body 4.9x3.9mm, Pitch 1.27mm, IPC Low Density)
pins: 1 IN (power) "Power is supplied to the device through the IN pin. A bypass capacitor is required on this pin if the device is more than six inches away from the main input filter capacitor. In general, the output impedance of a battery (See Datasheet)", 2 GND (power), 3 OUT (power) "The output supplies power to the load. A minimum output capacitor of 10uF is required to prevent oscillations. Larger output capacitors will be required for applications with large transient loads to limit peak voltage (See Datasheet)", 4 TAB (power)

## LT1521CS8-5#TRPBF
designator U?
300 mA Low Dropout Regulator with Micropower Quiescent Current and Shutdown, 4.3 to 20 V Vin, 5 V Vout, 8-pin SOIC (S8-8), 0 to 125 degC, Pb-Free, Tape and Reel; Manufacturer: Linear Technology; PartNumber: LT1521CS8-5#TRPBF; Discrete Pass Element: no; Dropout Voltage(V): 0.5; Iout(mA): 300; Isupply(mA): 0.012; Number of Outputs: 1; Output Voltage: 5 V; Shutdown Current(uA): 6; Vin Max(V): 20; Vin Min(V): 4.3; DatasheetVersion: Rev. B; PackageVersion: Rev. G, 03/2012; PackageReference: S8-8; PackageDescription: 8-Pin Plastic Small Outline (Narrow .150 Inch), Body 4.9 x 3.9 mm, Pitch 1.27 mm; Supplier 1: Digi-Key; Supplier Part Number 1: LT1521CS8-5#TRPBF-ND; Packing: Tape and Reel; RoHS: TRUE; Mounting Technology: Surface Mount; ComponentLink1Description: Manufacturer URL; ComponentLink1URL: http://www.linear.com/; ComponentLink2Description: Datasheet; ComponentLink2URL: http://cds.linear.com/docs/en/datasheet/1521335fb.pdf; ComponentLink3Description: Package Specification; ComponentLink3URL: http://cds.linear.com/docs/en/packaging/05081610_G_SO8.pdf
footprint LT-S8-8_N (SOIC, 8-Leads, Body 4.9x3.9mm, Pitch 1.27mm, IPC Medium Density)
footprint LT-S8-8_L (SOIC, 8-Leads, Body 4.9x3.9mm, Pitch 1.27mm, IPC High Density)
footprint LT-S8-8_M (SOIC, 8-Leads, Body 4.9x3.9mm, Pitch 1.27mm, IPC Low Density)
pins: 1 IN (power) "Power is supplied to the device through the IN pin. A bypass capacitor is required on this pin if the device is more than six inches away from the main input filter capacitor. In general, the output impedance of a battery (See Datasheet)", 2 GND (power), 3 OUT (power) "The output supplies power to the load. A minimum output capacitor of 10uF is required to prevent oscillations. Larger output capacitors will be required for applications with large transient loads to limit peak voltage (See Datasheet)", 4 TAB (power)

## LT1521CST-3
designator U?
300 mA Low Dropout Regulator with Micropower Quiescent Current and Shutdown, 4.3 to 20 V Vin, 3 V Vout, 3-pin SOT223 (ST-3), 0 to 125 degC; Manufacturer: Linear Technology; PartNumber: LT1521CST-3; Discrete Pass Element: no; Dropout Voltage(V): 0.5; Iout(mA): 300; Isupply(mA): 0.012; Number of Outputs: 1; Output Voltage: 3 V; Shutdown Current(uA): 6; Vin Max(V): 20; Vin Min(V): 4.3; DatasheetVersion: Rev. B; PackageVersion: Jun-10; PackageReference: ST-3; PackageDescription: 3-Pin Plastic SOT-223, 3.505 x 6.505 mm Body, Pitch 2.3 mm; Supplier 1: Digi-Key; Supplier Part Number 1: LT1521CST-3-ND; RoHS: FALSE; Mounting Technology: Surface Mount; ComponentLink1Description: Manufacturer URL; ComponentLink1URL: http://www.linear.com/; ComponentLink2Description: Datasheet; ComponentLink2URL: http://cds.linear.com/docs/en/datasheet/1521335fb.pdf; ComponentLink3Description: Package Specification; ComponentLink3URL: http://cds.linear.com/docs/en/packaging/SOT_3_05-08-1630.pdf
footprint LT-ST-3-SOT-223_N (SOT223, 4-Leads, Body 6.505x3.505mm, Pitch 2.3mm, IPC Medium Density)
footprint LT-ST-3-SOT-223_L (SOT223, 4-Leads, Body 6.505x3.505mm, Pitch 2.3mm, IPC High Density)
footprint LT-ST-3-SOT-223_M (SOT223, 4-Leads, Body 6.505x3.505mm, Pitch 2.3mm, IPC Low Density)
pins: 1 IN (power) "Power is supplied to the device through the IN pin. A bypass capacitor is required on this pin if the device is more than six inches away from the main input filter capacitor. In general, the output impedance of a battery (See Datasheet)", 2 GND (power), 3 OUT (power) "The output supplies power to the load. A minimum output capacitor of 10uF is required to prevent oscillations. Larger output capacitors will be required for applications with large transient loads to limit peak voltage (See Datasheet)", 4 TAB (power)

## LT1521CST-3#PBF
designator U?
300 mA Low Dropout Regulator with Micropower Quiescent Current and Shutdown, 4.3 to 20 V Vin, 3 V Vout, 3-pin SOT223 (ST-3), 0 to 125 degC, Pb-Free; Manufacturer: Linear Technology; PartNumber: LT1521CST-3#PBF; Discrete Pass Element: no; Dropout Voltage(V): 0.5; Iout(mA): 300; Isupply(mA): 0.012; Number of Outputs: 1; Output Voltage: 3 V; Shutdown Current(uA): 6; Vin Max(V): 20; Vin Min(V): 4.3; DatasheetVersion: Rev. B; PackageVersion: Jun-10; PackageReference: ST-3; PackageDescription: 3-Pin Plastic SOT-223, 3.505 x 6.505 mm Body, Pitch 2.3 mm; Supplier 1: Digi-Key; Supplier Part Number 1: LT1521CST-3#PBF-ND; Supplier 2: Newark; Supplier Part Number 2: 57M4752; RoHS: TRUE; Mounting Technology: Surface Mount; ComponentLink1Description: Manufacturer URL; ComponentLink1URL: http://www.linear.com/; ComponentLink2Description: Datasheet; ComponentLink2URL: http://cds.linear.com/docs/en/datasheet/1521335fb.pdf; ComponentLink3Description: Package Specification; ComponentLink3URL: http://cds.linear.com/docs/en/packaging/SOT_3_05-08-1630.pdf
footprint LT-ST-3-SOT-223_N (SOT223, 4-Leads, Body 6.505x3.505mm, Pitch 2.3mm, IPC Medium Density)
footprint LT-ST-3-SOT-223_L (SOT223, 4-Leads, Body 6.505x3.505mm, Pitch 2.3mm, IPC High Density)
footprint LT-ST-3-SOT-223_M (SOT223, 4-Leads, Body 6.505x3.505mm, Pitch 2.3mm, IPC Low Density)
pins: 1 IN (power) "Power is supplied to the device through the IN pin. A bypass capacitor is required on this pin if the device is more than six inches away from the main input filter capacitor. In general, the output impedance of a battery (See Datasheet)", 2 GND (power), 3 OUT (power) "The output supplies power to the load. A minimum output capacitor of 10uF is required to prevent oscillations. Larger output capacitors will be required for applications with large transient loads to limit peak voltage (See Datasheet)", 4 TAB (power)

## LT1521CST-3#TR
designator U?
300 mA Low Dropout Regulator with Micropower Quiescent Current and Shutdown, 4.3 to 20 V Vin, 3 V Vout, 3-pin SOT223 (ST-3), 0 to 125 degC, Tape and Reel; Manufacturer: Linear Technology; PartNumber: LT1521CST-3#TR; Discrete Pass Element: no; Dropout Voltage(V): 0.5; Iout(mA): 300; Isupply(mA): 0.012; Number of Outputs: 1; Output Voltage: 3 V; Shutdown Current(uA): 6; Vin Max(V): 20; Vin Min(V): 4.3; DatasheetVersion: Rev. B; PackageVersion: Jun-10; PackageReference: ST-3; PackageDescription: 3-Pin Plastic SOT-223, 3.505 x 6.505 mm Body, Pitch 2.3 mm; Supplier 1: Digi-Key; Supplier Part Number 1: LT1521CST-3#TR-ND; Packing: Tape and Reel; RoHS: FALSE; Mounting Technology: Surface Mount; ComponentLink1Description: Manufacturer URL; ComponentLink1URL: http://www.linear.com/; ComponentLink2Description: Datasheet; ComponentLink2URL: http://cds.linear.com/docs/en/datasheet/1521335fb.pdf; ComponentLink3Description: Package Specification; ComponentLink3URL: http://cds.linear.com/docs/en/packaging/SOT_3_05-08-1630.pdf
footprint LT-ST-3-SOT-223_N (SOT223, 4-Leads, Body 6.505x3.505mm, Pitch 2.3mm, IPC Medium Density)
footprint LT-ST-3-SOT-223_L (SOT223, 4-Leads, Body 6.505x3.505mm, Pitch 2.3mm, IPC High Density)
footprint LT-ST-3-SOT-223_M (SOT223, 4-Leads, Body 6.505x3.505mm, Pitch 2.3mm, IPC Low Density)
pins: 1 IN (power) "Power is supplied to the device through the IN pin. A bypass capacitor is required on this pin if the device is more than six inches away from the main input filter capacitor. In general, the output impedance of a battery (See Datasheet)", 2 GND (power), 3 OUT (power) "The output supplies power to the load. A minimum output capacitor of 10uF is required to prevent oscillations. Larger output capacitors will be required for applications with large transient loads to limit peak voltage (See Datasheet)", 4 TAB (power)

## LT1521CST-3#TRPBF
designator U?
300 mA Low Dropout Regulator with Micropower Quiescent Current and Shutdown, 4.3 to 20 V Vin, 3 V Vout, 3-pin SOT223 (ST-3), 0 to 125 degC, Pb-Free, Tape and Reel; Manufacturer: Linear Technology; PartNumber: LT1521CST-3#TRPBF; Discrete Pass Element: no; Dropout Voltage(V): 0.5; Iout(mA): 300; Isupply(mA): 0.012; Number of Outputs: 1; Output Voltage: 3 V; Shutdown Current(uA): 6; Vin Max(V): 20; Vin Min(V): 4.3; DatasheetVersion: Rev. B; PackageVersion: Jun-10; PackageReference: ST-3; PackageDescription: 3-Pin Plastic SOT-223, 3.505 x 6.505 mm Body, Pitch 2.3 mm; Supplier 1: Digi-Key; Supplier Part Number 1: LT1521CST-3#TRPBF-ND; Packing: Tape and Reel; RoHS: TRUE; Mounting Technology: Surface Mount; ComponentLink1Description: Manufacturer URL; ComponentLink1URL: http://www.linear.com/; ComponentLink2Description: Datasheet; ComponentLink2URL: http://cds.linear.com/docs/en/datasheet/1521335fb.pdf; ComponentLink3Description: Package Specification; ComponentLink3URL: http://cds.linear.com/docs/en/packaging/SOT_3_05-08-1630.pdf
footprint LT-ST-3-SOT-223_N (SOT223, 4-Leads, Body 6.505x3.505mm, Pitch 2.3mm, IPC Medium Density)
footprint LT-ST-3-SOT-223_L (SOT223, 4-Leads, Body 6.505x3.505mm, Pitch 2.3mm, IPC High Density)
footprint LT-ST-3-SOT-223_M (SOT223, 4-Leads, Body 6.505x3.505mm, Pitch 2.3mm, IPC Low Density)
pins: 1 IN (power) "Power is supplied to the device through the IN pin. A bypass capacitor is required on this pin if the device is more than six inches away from the main input filter capacitor. In general, the output impedance of a battery (See Datasheet)", 2 GND (power), 3 OUT (power) "The output supplies power to the load. A minimum output capacitor of 10uF is required to prevent oscillations. Larger output capacitors will be required for applications with large transient loads to limit peak voltage (See Datasheet)", 4 TAB (power)

## LT1521CST-3.3
designator U?
300 mA Low Dropout Regulator with Micropower Quiescent Current and Shutdown, 4.3 to 20 V Vin, 3.3 V Vout, 3-pin SOT223 (ST-3), 0 to 125 degC; Manufacturer: Linear Technology; PartNumber: LT1521CST-3.3; Discrete Pass Element: no; Dropout Voltage(V): 0.5; Iout(mA): 300; Isupply(mA): 0.012; Number of Outputs: 1; Output Voltage: 3.3 V; Shutdown Current(uA): 6; Vin Max(V): 20; Vin Min(V): 4.3; DatasheetVersion: Rev. B; PackageVersion: Jun-10; PackageReference: ST-3; PackageDescription: 3-Pin Plastic SOT-223, 3.505 x 6.505 mm Body, Pitch 2.3 mm; Supplier 1: Digi-Key; Supplier Part Number 1: LT1521CST-3.3-ND; Supplier 2: Newark; Supplier Part Number 2: 57M4748; RoHS: FALSE; Mounting Technology: Surface Mount; ComponentLink1Description: Manufacturer URL; ComponentLink1URL: http://www.linear.com/; ComponentLink2Description: Datasheet; ComponentLink2URL: http://cds.linear.com/docs/en/datasheet/1521335fb.pdf; ComponentLink3Description: Package Specification; ComponentLink3URL: http://cds.linear.com/docs/en/packaging/SOT_3_05-08-1630.pdf
footprint LT-ST-3-SOT-223_N (SOT223, 4-Leads, Body 6.505x3.505mm, Pitch 2.3mm, IPC Medium Density)
footprint LT-ST-3-SOT-223_L (SOT223, 4-Leads, Body 6.505x3.505mm, Pitch 2.3mm, IPC High Density)
footprint LT-ST-3-SOT-223_M (SOT223, 4-Leads, Body 6.505x3.505mm, Pitch 2.3mm, IPC Low Density)
pins: 1 IN (power) "Power is supplied to the device through the IN pin. A bypass capacitor is required on this pin if the device is more than six inches away from the main input filter capacitor. In general, the output impedance of a battery (See Datasheet)", 2 GND (power), 3 OUT (power) "The output supplies power to the load. A minimum output capacitor of 10uF is required to prevent oscillations. Larger output capacitors will be required for applications with large transient loads to limit peak voltage (See Datasheet)", 4 TAB (power)

## LT1521CST-3.3#PBF
designator U?
300 mA Low Dropout Regulator with Micropower Quiescent Current and Shutdown, 4.3 to 20 V Vin, 3.3 V Vout, 3-pin SOT223 (ST-3), 0 to 125 degC, Pb-Free; Manufacturer: Linear Technology; PartNumber: LT1521CST-3.3#PBF; Discrete Pass Element: no; Dropout Voltage(V): 0.5; Iout(mA): 300; Isupply(mA): 0.012; Number of Outputs: 1; Output Voltage: 3.3 V; Shutdown Current(uA): 6; Vin Max(V): 20; Vin Min(V): 4.3; DatasheetVersion: Rev. B; PackageVersion: Jun-10; PackageReference: ST-3; PackageDescription: 3-Pin Plastic SOT-223, 3.505 x 6.505 mm Body, Pitch 2.3 mm; Supplier 1: Digi-Key; Supplier Part Number 1: LT1521CST-3.3#PBF-ND; Supplier 2: Farnell; Supplier Part Number 2: 1663445; Supplier 3: Newark; Supplier Part Number 3: 57M4749; RoHS: TRUE; Mounting Technology: Surface Mount; ComponentLink1Description: Manufacturer URL; ComponentLink1URL: http://www.linear.com/; ComponentLink2Description: Datasheet; ComponentLink2URL: http://cds.linear.com/docs/en/datasheet/1521335fb.pdf; ComponentLink3Description: Package Specification; ComponentLink3URL: http://cds.linear.com/docs/en/packaging/SOT_3_05-08-1630.pdf
footprint LT-ST-3-SOT-223_N (SOT223, 4-Leads, Body 6.505x3.505mm, Pitch 2.3mm, IPC Medium Density)
footprint LT-ST-3-SOT-223_L (SOT223, 4-Leads, Body 6.505x3.505mm, Pitch 2.3mm, IPC High Density)
footprint LT-ST-3-SOT-223_M (SOT223, 4-Leads, Body 6.505x3.505mm, Pitch 2.3mm, IPC Low Density)
pins: 1 IN (power) "Power is supplied to the device through the IN pin. A bypass capacitor is required on this pin if the device is more than six inches away from the main input filter capacitor. In general, the output impedance of a battery (See Datasheet)", 2 GND (power), 3 OUT (power) "The output supplies power to the load. A minimum output capacitor of 10uF is required to prevent oscillations. Larger output capacitors will be required for applications with large transient loads to limit peak voltage (See Datasheet)", 4 TAB (power)

## LT1521CST-3.3#TR
designator U?
300 mA Low Dropout Regulator with Micropower Quiescent Current and Shutdown, 4.3 to 20 V Vin, 3.3 V Vout, 3-pin SOT223 (ST-3), 0 to 125 degC, Tape and Reel; Manufacturer: Linear Technology; PartNumber: LT1521CST-3.3#TR; Discrete Pass Element: no; Dropout Voltage(V): 0.5; Iout(mA): 300; Isupply(mA): 0.012; Number of Outputs: 1; Output Voltage: 3.3 V; Shutdown Current(uA): 6; Vin Max(V): 20; Vin Min(V): 4.3; DatasheetVersion: Rev. B; PackageVersion: Jun-10; PackageReference: ST-3; PackageDescription: 3-Pin Plastic SOT-223, 3.505 x 6.505 mm Body, Pitch 2.3 mm; Supplier 1: Digi-Key; Supplier Part Number 1: LT1521CST-3.3#TR-ND; Packing: Tape and Reel; RoHS: FALSE; Mounting Technology: Surface Mount; ComponentLink1Description: Manufacturer URL; ComponentLink1URL: http://www.linear.com/; ComponentLink2Description: Datasheet; ComponentLink2URL: http://cds.linear.com/docs/en/datasheet/1521335fb.pdf; ComponentLink3Description: Package Specification; ComponentLink3URL: http://cds.linear.com/docs/en/packaging/SOT_3_05-08-1630.pdf
footprint LT-ST-3-SOT-223_N (SOT223, 4-Leads, Body 6.505x3.505mm, Pitch 2.3mm, IPC Medium Density)
footprint LT-ST-3-SOT-223_L (SOT223, 4-Leads, Body 6.505x3.505mm, Pitch 2.3mm, IPC High Density)
footprint LT-ST-3-SOT-223_M (SOT223, 4-Leads, Body 6.505x3.505mm, Pitch 2.3mm, IPC Low Density)
pins: 1 IN (power) "Power is supplied to the device through the input pin. The input pin should be bypassed to ground if the device is more than six inches away from the main input filter capacitor. In general, the output impedance of battery (See Datasheet)", 2 GND (power), 3 OUT (power) "The output pin supplies power to the load. A minimum output capacitor of 1.5uF is required to prevent oscillations, but larger values of output capacitor will be necessary to deal with larger load transients. See the (See Datasheet)", 4 TAB (power)

## LT1521CST-3.3#TRPBF
designator U?
300 mA Low Dropout Regulator with Micropower Quiescent Current and Shutdown, 4.3 to 20 V Vin, 3.3 V Vout, 3-pin SOT223 (ST-3), 0 to 125 degC, Pb-Free, Tape and Reel; Manufacturer: Linear Technology; PartNumber: LT1521CST-3.3#TRPBF; Discrete Pass Element: no; Dropout Voltage(V): 0.5; Iout(mA): 300; Isupply(mA): 0.012; Number of Outputs: 1; Output Voltage: 3.3 V; Shutdown Current(uA): 6; Vin Max(V): 20; Vin Min(V): 4.3; DatasheetVersion: Rev. B; PackageVersion: Jun-10; PackageReference: ST-3; PackageDescription: 3-Pin Plastic SOT-223, 3.505 x 6.505 mm Body, Pitch 2.3 mm; Supplier 1: Digi-Key; Supplier Part Number 1: LT1521CST-3.3#TRPBF-ND; Supplier 2: Newark; Supplier Part Number 2: 57M4751; Packing: Tape and Reel; RoHS: TRUE; Mounting Technology: Surface Mount; ComponentLink1Description: Manufacturer URL; ComponentLink1URL: http://www.linear.com/; ComponentLink2Description: Datasheet; ComponentLink2URL: http://cds.linear.com/docs/en/datasheet/1521335fb.pdf; ComponentLink3Description: Package Specification; ComponentLink3URL: http://cds.linear.com/docs/en/packaging/SOT_3_05-08-1630.pdf
footprint LT-ST-3-SOT-223_N (SOT223, 4-Leads, Body 6.505x3.505mm, Pitch 2.3mm, IPC Medium Density)
footprint LT-ST-3-SOT-223_L (SOT223, 4-Leads, Body 6.505x3.505mm, Pitch 2.3mm, IPC High Density)
footprint LT-ST-3-SOT-223_M (SOT223, 4-Leads, Body 6.505x3.505mm, Pitch 2.3mm, IPC Low Density)
pins: 1 IN (power) "Power is supplied to the device through the input pin. The input pin should be bypassed to ground if the device is more than six inches away from the main input filter capacitor. In general, the output impedance of battery (See Datasheet)", 2 GND (power), 3 OUT (power) "The output pin supplies power to the load. A minimum output capacitor of 1.5uF is required to prevent oscillations, but larger values of output capacitor will be necessary to deal with larger load transients. See the (See Datasheet)", 4 TAB (power)

## LT1521CST-5
designator U?
300 mA Low Dropout Regulator with Micropower Quiescent Current and Shutdown, 4.3 to 20 V Vin, 5 V Vout, 3-pin SOT223 (ST-3), 0 to 125 degC; Manufacturer: Linear Technology; PartNumber: LT1521CST-5; Discrete Pass Element: no; Dropout Voltage(V): 0.5; Iout(mA): 300; Isupply(mA): 0.012; Number of Outputs: 1; Output Voltage: 5 V; Shutdown Current(uA): 6; Vin Max(V): 20; Vin Min(V): 4.3; DatasheetVersion: Rev. B; PackageVersion: Jun-10; PackageReference: ST-3; PackageDescription: 3-Pin Plastic SOT-223, 3.505 x 6.505 mm Body, Pitch 2.3 mm; Supplier 1: Digi-Key; Supplier Part Number 1: LT1521CST-5-ND; RoHS: FALSE; Mounting Technology: Surface Mount; ComponentLink1Description: Manufacturer URL; ComponentLink1URL: http://www.linear.com/; ComponentLink2Description: Datasheet; ComponentLink2URL: http://cds.linear.com/docs/en/datasheet/1521335fb.pdf; ComponentLink3Description: Package Specification; ComponentLink3URL: http://cds.linear.com/docs/en/packaging/SOT_3_05-08-1630.pdf
footprint LT-ST-3-SOT-223_N (SOT223, 4-Leads, Body 6.505x3.505mm, Pitch 2.3mm, IPC Medium Density)
footprint LT-ST-3-SOT-223_L (SOT223, 4-Leads, Body 6.505x3.505mm, Pitch 2.3mm, IPC High Density)
footprint LT-ST-3-SOT-223_M (SOT223, 4-Leads, Body 6.505x3.505mm, Pitch 2.3mm, IPC Low Density)
pins: 1 IN (power) "Power is supplied to the device through the input pin. The input pin should be bypassed to ground if the device is more than six inches away from the main input filter capacitor. In general, the output impedance of battery (See Datasheet)", 2 GND (power), 3 OUT (power) "The output pin supplies power to the load. A minimum output capacitor of 1.5uF is required to prevent oscillations, but larger values of output capacitor will be necessary to deal with larger load transients. See the (See Datasheet)", 4 TAB (power)

## LT1521CST-5#PBF
designator U?
300 mA Low Dropout Regulator with Micropower Quiescent Current and Shutdown, 4.3 to 20 V Vin, 5 V Vout, 3-pin SOT223 (ST-3), 0 to 125 degC, Pb-Free; Manufacturer: Linear Technology; PartNumber: LT1521CST-5#PBF; Discrete Pass Element: no; Dropout Voltage(V): 0.5; Iout(mA): 300; Isupply(mA): 0.012; Number of Outputs: 1; Output Voltage: 5 V; Shutdown Current(uA): 6; Vin Max(V): 20; Vin Min(V): 4.3; DatasheetVersion: Rev. B; PackageVersion: Jun-10; PackageReference: ST-3; PackageDescription: 3-Pin Plastic SOT-223, 3.505 x 6.505 mm Body, Pitch 2.3 mm; Supplier 1: Digi-Key; Supplier Part Number 1: LT1521CST-5#PBF-ND; Supplier 2: Farnell; Supplier Part Number 2: 9560610; Supplier 3: Newark; Supplier Part Number 3: 57M4756; RoHS: TRUE; Mounting Technology: Surface Mount; ComponentLink1Description: Manufacturer URL; ComponentLink1URL: http://www.linear.com/; ComponentLink2Description: Datasheet; ComponentLink2URL: http://cds.linear.com/docs/en/datasheet/1521335fb.pdf; ComponentLink3Description: Package Specification; ComponentLink3URL: http://cds.linear.com/docs/en/packaging/SOT_3_05-08-1630.pdf
footprint LT-ST-3-SOT-223_N (SOT223, 4-Leads, Body 6.505x3.505mm, Pitch 2.3mm, IPC Medium Density)
footprint LT-ST-3-SOT-223_L (SOT223, 4-Leads, Body 6.505x3.505mm, Pitch 2.3mm, IPC High Density)
footprint LT-ST-3-SOT-223_M (SOT223, 4-Leads, Body 6.505x3.505mm, Pitch 2.3mm, IPC Low Density)
pins: 1 IN (power) "Power is supplied to the device through the input pin. The input pin should be bypassed to ground if the device is more than six inches away from the main input filter capacitor. In general, the output impedance of battery (See Datasheet)", 2 GND (power), 3 OUT (power) "The output pin supplies power to the load. A minimum output capacitor of 1.5uF is required to prevent oscillations, but larger values of output capacitor will be necessary to deal with larger load transients. See the (See Datasheet)", 4 TAB (power)